# Altium schematic symbol library 接口.SchLib: 58 symbols
Pins are listed as number, name and electrical type; pins without a type are passive.

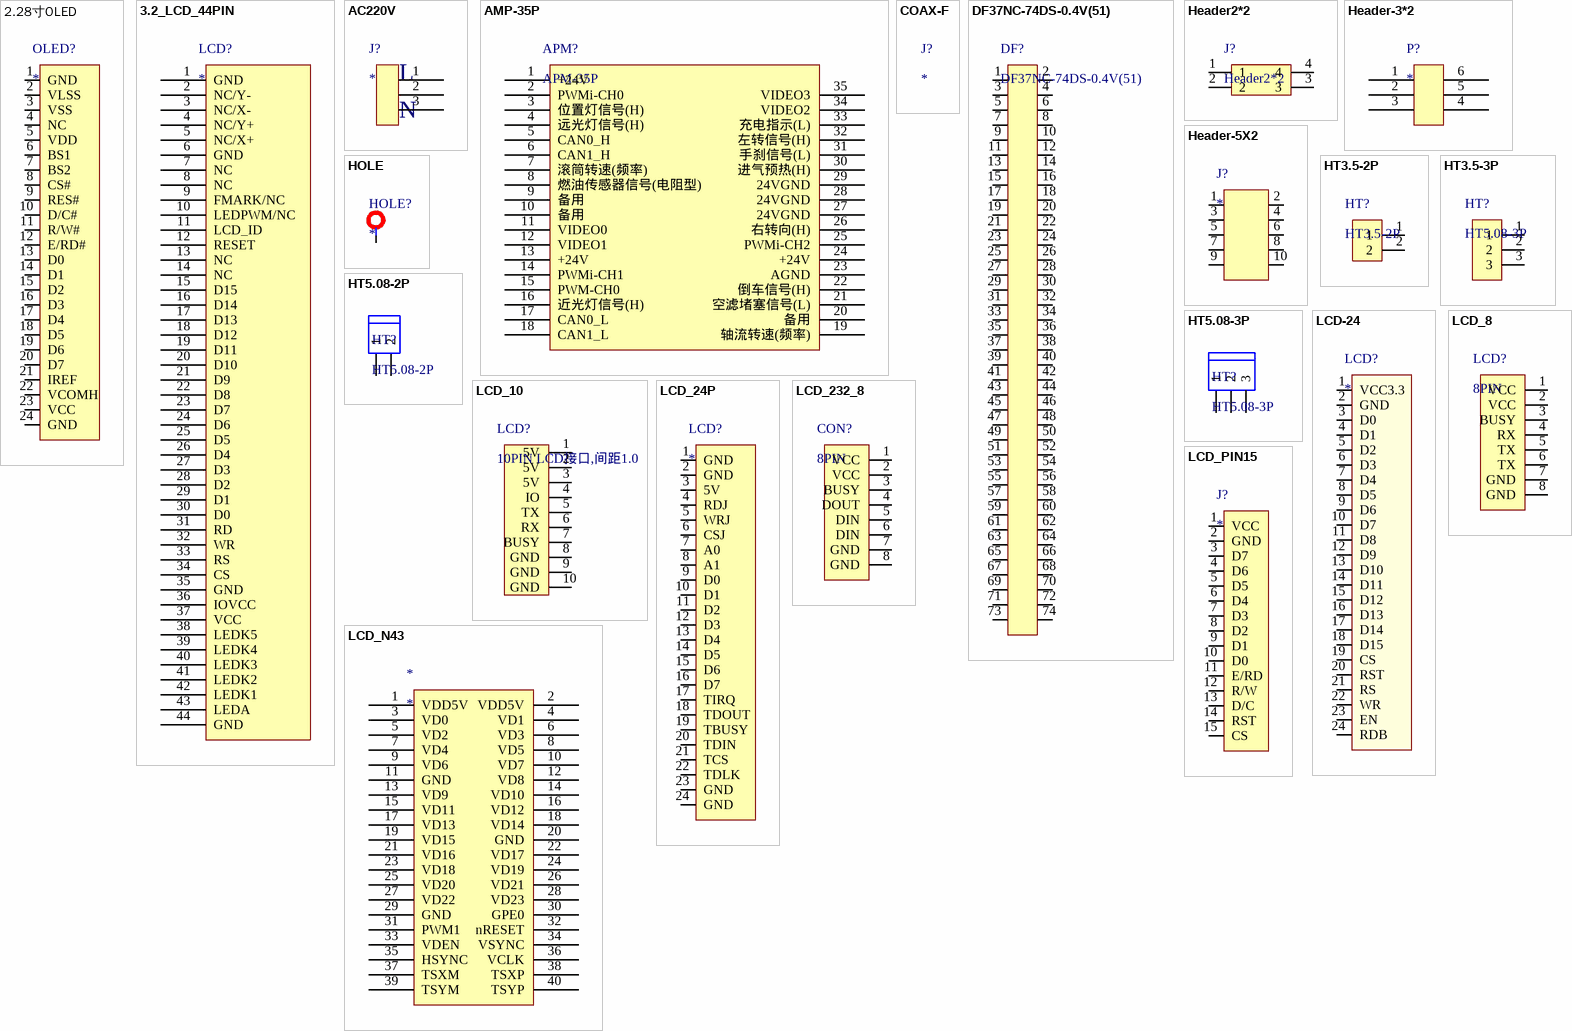
[diagram p0: symbols 2.28寸OLED to LCD_PIN15]

## 2.28寸OLED
designator OLED?
footprint FPC_24P_0.5MM
pins: 1 GND, 2 VLSS, 3 VSS, 4 NC, 5 VDD, 6 BS1, 7 BS2, 8 CS#, 9 RES#, 10 D/C#, 11 R/W#, 12 E/RD#, 13 D0, 14 D1, 15 D2, 16 D3, 17 D4, 18 D5, 19 D6, 20 D7, 21 IREF, 22 VCOMH, 23 VCC, 24 GND

## 3.2_LCD_44PIN
designator LCD?
footprint LCD_44PIN
pins: 1 GND, 2 NC/Y-, 3 NC/X-, 4 NC/Y+, 5 NC/X+, 6 GND, 7 NC, 8 NC, 9 FMARK/NC, 10 LEDPWM/NC, 11 LCD_ID, 12 RESET, 13 NC, 14 NC, 15 D15, 16 D14, 17 D13, 18 D12, 19 D11, 20 D10, 21 D9, 22 D8, 23 D7, 24 D6, 25 D5, 26 D4, 27 D3, 28 D2, 29 D1, 30 D0, 31 RD, 32 WR, 33 RS, 34 CS, 35 GND, 36 IOVCC, 37 VCC, 38 LEDK5, 39 LEDK4, 40 LEDK3, 41 LEDK2, 42 LEDK1, 43 LEDA, 44 GND

## AC220V
designator J?
pins: 1 (power), 2, 3
text: L; N

## AMP-35P
designator APM?, comment APM-35P
pins: 1 +24V, 2 PWMi-CH0, 3 位置灯信号(H), 4 远光灯信号(H), 5 CAN0_H, 6 CAN1_H, 7 滚筒转速(频率), 8 燃油传感器信号(电阻型), 9 备用, 10 备用, 11 VIDEO0, 12 VIDEO1, 13 +24V, 14 PWMi-CH1, 15 PWM-CH0, 16 近光灯信号(H), 17 CAN0_L, 18 CAN1_L, 19 轴流转速(频率), 20 备用, 21 空滤堵塞信号(L), 22 倒车信号(H), 23 AGND, 24 +24V, 25 PWMi-CH2, 26 右转向(H), 27 24VGND, 28 24VGND, 29 24VGND, 30 进气预热(H), 31 手刹信号(L), 32 左转信号(H), 33 充电指示(L), 34 VIDEO2, 35 VIDEO3

## COAX-F
designator J?
RF Coaxial PCB Connector, MCX; Thru-Hole, Right-Angle Mount Socket, Blunt Post Terminal, 50 Ohm Impedance

## DF37NC-74DS-0.4V(51)
designator DF?
footprint DF37NC-74DS-0.4V(51)
footprint PIN_37X2
footprint LCD_PIN74_1MM
pins: 1 GND, 2 GND, 3 GND, 4 GND, 5 GND, 6 GND, 7 GND, 8 GND, 9 GND, 10 GND, 11 GND, 12 GND, 13 GND, 14 GND, 15 GND, 16 GND, 17 GND, 18 GND, 19 GND, 20 GND, 21 GND, 22 GND, 23 GND, 24, 25, 26, 27, 28, 29, 30, 31, 32, 33, 34, 35, 36, 37, 38, 39, 40, 41, 42, 43, 44, 45, 46, 47, 48, 49, 50, 51, 52, 53, 54, 55, 56, 57, 58, 59, 60, 61, 62, 63, 64, 65, 66, 67, 68, 69, 70, 71, 72, 73, 74

## Header2*2
designator J?
footprint Header2*2
pins: 1, 2, 3, 4

## Header-3*2
designator P?
footprint Header-3*2
pins: 1, 2, 3, 4, 5, 6

## Header-5X2
designator J?
footprint Header_5X2_2.54MM
pins: 1, 2, 3, 4, 5, 6, 7, 8, 9, 10

## HOLE
designator HOLE?
安装孔
footprint HOLE (安装孔)
pins: 0

## HT3.5-2P
designator HT?
3.5间距2P座子
footprint HT5.08-2PL
footprint HEAD2-3.5
pins: 1, 2

## HT3.5-3P
designator HT?, comment HT5.08-3P
3.5间距3P座子
footprint HT5.08-3PL
footprint XH-3A-LS
footprint HEAD3-3.5
pins: 1, 2, 3

## HT5.08-2P
designator HT?
5.08蓝色接口座子
footprint HEAD2-5.08
footprint HEAD2-3.5
pins: 1, 2

## HT5.08-3P
designator HT?
5.08蓝色接口座子
footprint HEAD3-5.08
footprint HEAD3-3.5
pins: 1, 2, 3

## LCD-24
designator LCD?
footprint LCD-24PIN_1MM
pins: 1 VCC3.3, 2 GND, 3 D0, 4 D1, 5 D2, 6 D3, 7 D4, 8 D5, 9 D6, 10 D7, 11 D8, 12 D9, 13 D10, 14 D11, 15 D12, 16 D13, 17 D14, 18 D15, 19 CS, 20 RST, 21 RS, 22 WR, 23 EN, 24 RDB

## LCD_8
designator LCD?, comment 8PIN
footprint LCD8
pins: 1 VCC, 2 VCC, 3 BUSY, 4 RX, 5 TX, 6 TX, 7 GND, 8 GND

## LCD_10
designator LCD?, comment 10PIN LCD接口,间距1.0
footprint LCD10 (10pin液晶接口，1.0间距)
footprint FPC_10P_LS_0.5MM
pins: 1 5V, 2 5V, 3 5V, 4 IO, 5 TX, 6 RX, 7 BUSY, 8 GND, 9 GND, 10 GND

## LCD_24P
designator LCD?
footprint FPC0.5MM-24P
footprint LCD-24PIN_1MM
pins: 1 GND, 2 GND, 3 5V, 4 RDJ, 5 WRJ, 6 CSJ, 7 A0, 8 A1, 9 D0, 10 D1, 11 D2, 12 D3, 13 D4, 14 D5, 15 D6, 16 D7, 17 TIRQ, 18 TDOUT, 19 TBUSY, 20 TDIN, 21 TCS, 22 TDLK, 23 GND, 24 GND

## LCD_232_8
designator CON?, comment 8PIN
footprint LCD232
pins: 1 VCC, 2 VCC, 3 BUSY, 4 DOUT, 5 DIN, 6 DIN, 7 GND, 8 GND

## LCD_N43
designator *
pins: 1 VDD5V, 2 VDD5V, 3 VD0, 4 VD1, 5 VD2, 6 VD3, 7 VD4, 8 VD5, 9 VD6, 10 VD7, 11 GND, 12 VD8, 13 VD9, 14 VD10, 15 VD11, 16 VD12, 17 VD13, 18 VD14, 19 VD15, 20 GND, 21 VD16, 22 VD17, 23 VD18, 24 VD19, 25 VD20, 26 VD21, 27 VD22, 28 VD23, 29 GND, 30 GPE0, 31 PWM1, 32 nRESET, 33 VDEN, 34 VSYNC, 35 HSYNC, 36 VCLK, 37 TSXM, 38 TSXP, 39 TSYM, 40 TSYP

## LCD_PIN15
designator J?
footprint LCD_PIN15
pins: 1 VCC, 2 GND, 3 D7, 4 D6, 5 D5, 6 D4, 7 D3, 8 D2, 9 D1, 10 D0, 11 E/RD, 12 R/W, 13 D/C, 14 RST, 15 CS, 16, 17, 18, 19, 20, 21, 22, 23, 24, 25, 26, 27, 28, 29, 30, 31, 32, 33, 34, 35, 36, 37, 38, 39, 40, 41, 42, 43, 44, 45

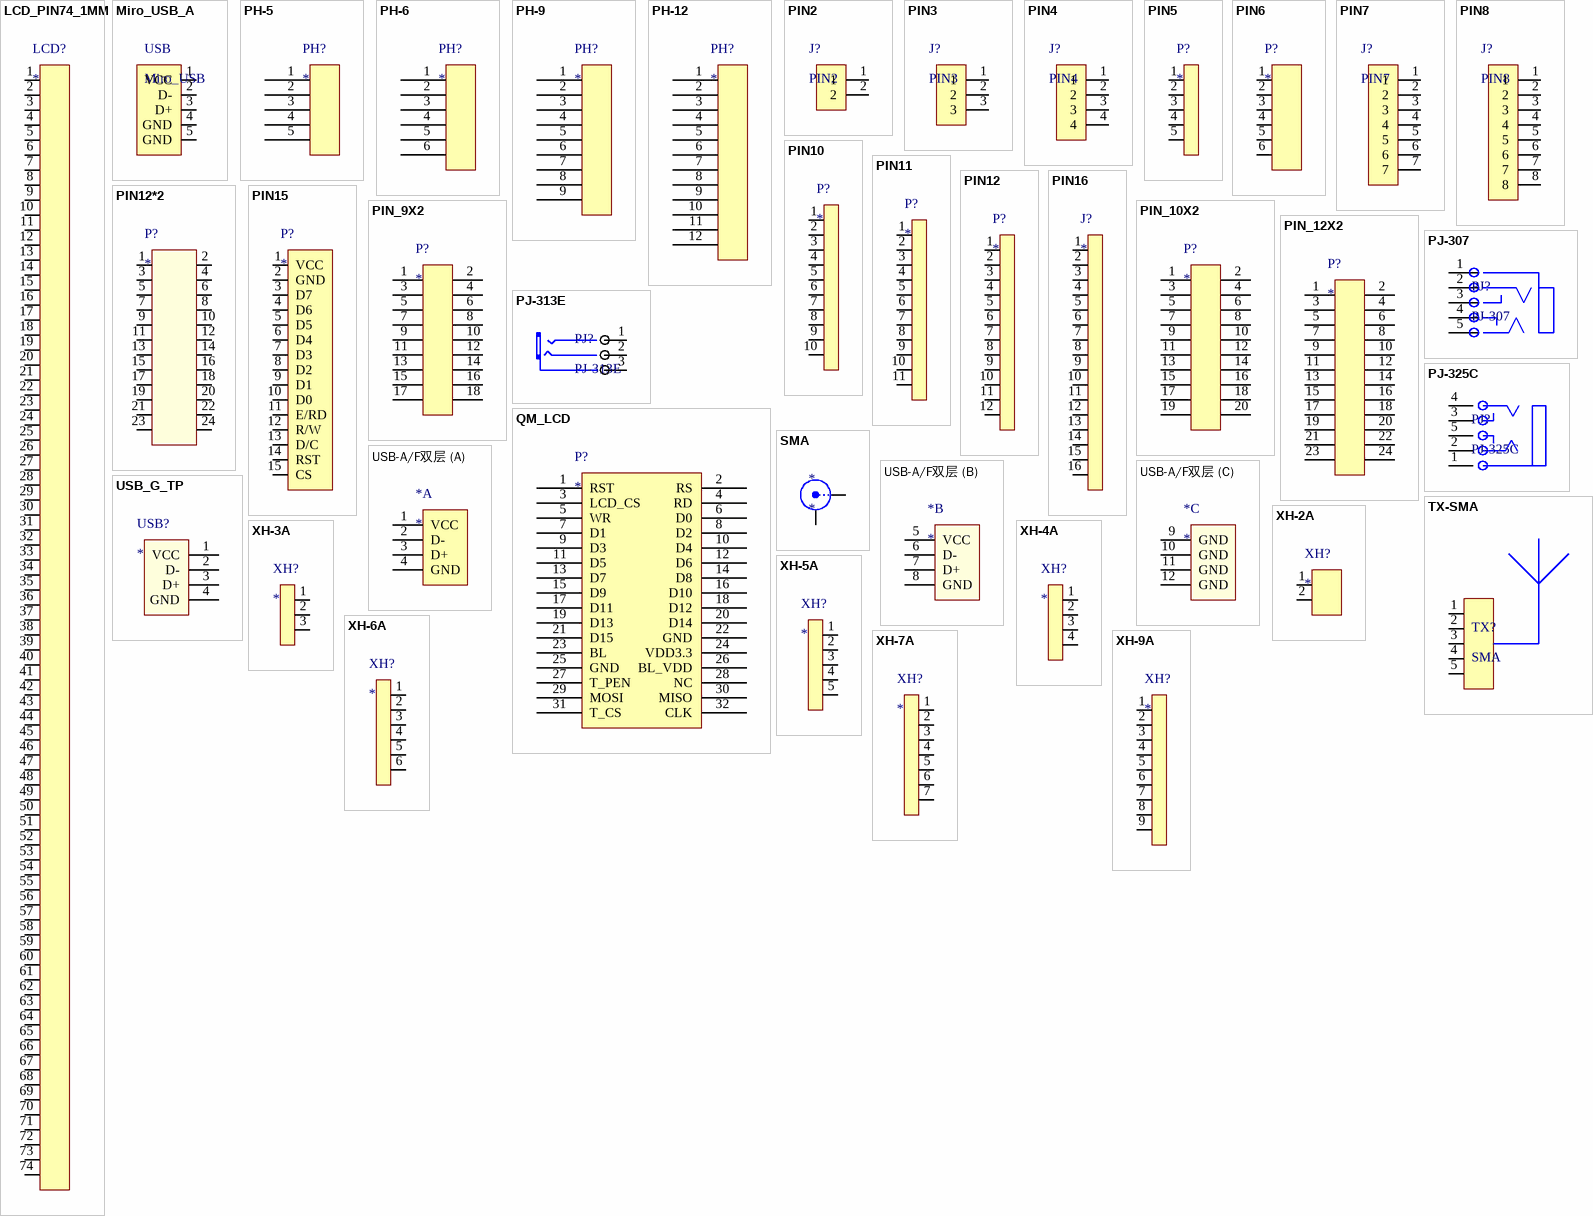
[diagram p1: symbols LCD_PIN74_1MM to XH-9A]

## LCD_PIN74_1MM
designator LCD?
footprint LCD_PIN74_1MM
pins: 1 75, 2 76, 3 77, 4 78, 5 79, 6 80, 7 81, 8 82, 9 83, 10 84, 11 85, 12 86, 13 87, 14, 15, 16, 17, 18, 19, 20, 21, 22, 23, 24, 25, 26, 27, 28, 29, 30, 31, 32, 33, 34, 35, 36, 37, 38, 39, 40, 41, 42, 43, 44, 45, 46, 47, 48, 49, 50, 51, 52, 53, 54, 55, 56, 57, 58, 59, 60, 61, 62, 63, 64, 65, 66, 67, 68, 69, 70, 71, 72, 73, 74

## Miro_USB_A
designator USB, comment Miro_USB
footprint Mico_USB_M_5P
pins: 1 VCC, 2 D-, 3 D+, 4 GND, 5 GND

## PH-5
designator PH?
PH连接器
footprint PH2.0_5P_LS (立式)
pins: 1, 2, 3, 4, 5

## PH-6
designator PH?
PH连接器
footprint PH2.0_6P_LS (立式)
pins: 1, 2, 3, 4, 5, 6

## PH-9
designator PH?
PH连接器
footprint PH2.0_9P_LS (立式)
pins: 1, 2, 3, 4, 5, 6, 7, 8, 9

## PH-12
designator PH?
PH连接器
footprint PH2.0_12P_LS (立式)
pins: 1, 2, 3, 4, 5, 6, 7, 8, 9, 10, 11, 12

## PIN2
designator J?
footprint PIN2-2.54
pins: 1, 2

## PIN3
designator J?
footprint PIN3-2.54
pins: 1, 2, 3

## PIN4
designator J?
footprint PIN4-2.54
footprint PH_2.0_4P
footprint PIN4_2MM
pins: 1, 2, 3, 4

## PIN5
designator P?
footprint XH-5A-LS
footprint PIN5_2.54MM
pins: 1, 2, 3, 4, 5

## PIN6
designator P?
footprint XH-6A-LS
pins: 1, 2, 3, 4, 5, 6

## PIN7
designator J?
footprint PIN7-2.54
pins: 1, 2, 3, 4, 5, 6, 7

## PIN8
designator J?
footprint PIN8-2.54
pins: 1, 2, 3, 4, 5, 6, 7, 8

## PIN10
designator P?
pins: 1, 2, 3, 4, 5, 6, 7, 8, 9, 10

## PIN11
designator P?
footprint XH-11A-LS
pins: 1, 2, 3, 4, 5, 6, 7, 8, 9, 10, 11

## PIN12
designator P?
footprint XH-12A-LS
footprint PIN12-2.54
pins: 1, 2, 3, 4, 5, 6, 7, 8, 9, 10, 11, 12

## PIN12*2
designator P?
footprint PIN12*2-2.54
pins: 1 D16, 2 D17, 3 D18, 4 D19, 5 D20, 6 D21, 7 D22, 8 D23, 9 D24, 10 D25, 11 D26, 12 D27, 13 D28, 14 D29, 15 D30, 16 D31, 17 D32, 18 D33, 19 D34, 20 D35, 21 D36, 22 D37, 23 D38, 24 D39

## PIN15
designator P?
footprint PIN_15_2.54MM
pins: 1 VCC, 2 GND, 3 D7, 4 D6, 5 D5, 6 D4, 7 D3, 8 D2, 9 D1, 10 D0, 11 E/RD, 12 R/W, 13 D/C, 14 RST, 15 CS

## PIN16
designator J?
footprint PIN16
footprint PIN_16_2.54MM
pins: 1 D40, 2 D41, 3 D42, 4 D43, 5 D44, 6 D45, 7 D46, 8 D47, 9 D48, 10 D49, 11 D50, 12 D51, 13 D52, 14 D53, 15 D54, 16 D55

## PIN_9X2
designator P?
footprint PIN_9X2
pins: 1 NC, 2 NC, 3 NC, 4 NC, 5 NC, 6 NC, 7 NC, 8 NC, 9 NC, 10 NC, 11 NC, 12 NC, 13 NC, 14 NC, 15 NC, 16 NC, 17 NC, 18 NC

## PIN_10X2
designator P?
footprint PIN_10X2_2MM
pins: 1 NC, 2 NC, 3 NC, 4 NC, 5 NC, 6 NC, 7 NC, 8 NC, 9 NC, 10 NC, 11 NC, 12 NC, 13 NC, 14 NC, 15 NC, 16 NC, 17 NC, 18 NC, 19 NC, 20 NC

## PIN_12X2
designator P?
footprint PIN_12X2_2.54
pins: 1 NC, 2 NC, 3 NC, 4 NC, 5 NC, 6 NC, 7 NC, 8 NC, 9 NC, 10 NC, 11 NC, 12 NC, 13 NC, 14 NC, 15 NC, 16 NC, 17 NC, 18 NC, 19 NC, 20 NC, 21 NC, 22 NC, 23 NC, 24 NC

## PJ-307
designator PJ?
音频接口
footprint PJ-307
pins: 1 VDD, 2 VDD, 3 VDD, 4 VDD, 5 VDD

## PJ-313E
designator PJ?
音频接口
footprint PJ-313E
pins: 1 CHL, 2 CHR, 3 COM

## PJ-325C
designator PJ?
音频接口
footprint PJ-325C
pins: 1 VDD, 2 VDD, 3 VDD, 4 VDD, 5 VDD

## QM_LCD
designator P?
footprint PIN_16*2_2.54
footprint FPC32_0.3*0.5
footprint TPIN_16*2_2.54
pins: 1 RST, 2 RS, 3 LCD_CS, 4 RD, 5 WR, 6 D0, 7 D1, 8 D2, 9 D3, 10 D4, 11 D5, 12 D6, 13 D7, 14 D8, 15 D9, 16 D10, 17 D11, 18 D12, 19 D13, 20 D14, 21 D15, 22 GND, 23 BL, 24 VDD3.3, 25 GND, 26 BL_VDD, 27 T_PEN, 28 NC, 29 MOSI, 30 MISO, 31 T_CS, 32 CLK

## SMA
designator *
footprint SMA (1.6间距，侧帖)
pins: 1 X, 2 Y

## TX-SMA
designator TX?, comment SMA
天线座
footprint SMA-TX
pins: 1, 2, 3, 4, 5

## USB-A/F双层
designator *
footprint USB-AF-双层
part A pins: 1 VCC, 2 D-, 3 D+, 4 GND
part B pins: 5 VCC, 6 D-, 7 D+, 8 GND
part C pins: 9 GND, 10 GND, 11 GND, 12 GND

## USB_G_TP
designator USB?
footprint USB-180_TM
footprint Mico_USB_M_5P
pins: 1 VCC, 2 D-, 3 D+, 4 GND

## XH-2A
designator XH?
XH插座
footprint XH-2A-LS
pins: 1, 2

## XH-3A
designator XH?
XH插座
footprint XH-3A-LS
footprint Model Name (Footprint not found)
pins: 1, 2, 3

## XH-4A
designator XH?
XH插座
footprint XH-4A-LS
footprint Model Name (Footprint not found)
footprint HEAD4-3.5
footprint XH2.54_4P_W
pins: 1, 2, 3, 4

## XH-5A
designator XH?
XH插座
pins: 1, 2, 3, 4, 5

## XH-6A
designator XH?
XH插座
footprint XH-6A-LS
pins: 1, 2, 3, 4, 5, 6

## XH-7A
designator XH?
XH插座
footprint XH-7A-LS
pins: 1, 2, 3, 4, 5, 6, 7

## XH-9A
designator XH?
XH插座
footprint XH-9A-LS
pins: 1, 2, 3, 4, 5, 6, 7, 8, 9